# Altium integrated library Trimpot_1KR.IntLib: 1 symbol
Pins are listed as number, name and electrical type; pins without a type are passive.

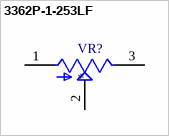
[diagram p0: symbol 3362P-1-253LF]

## 3362P-1-253LF
designator VR?
25 kOhms 0.5W, 1/2W PC Pins Through Hole Trimmer Potentiometer Cermet 1.0 Turn Top Adjustment; MF: Bourns; MP: 3362P-1-253LF; SnapEDA_Link: https://www.snapeda.com/parts/3362P-1-253LF/Bourns/view-part/?ref=snap; Price: None; Check_prices: https://www.snapeda.com/parts/3362P-1-253LF/Bourns/view-part/?ref=eda; Purchase-URL: https://pricing.snapeda.com/search/part/3362P-1-253LF/?ref=eda; Value: *; Availability: In Stock; Package: 3362P-1 Bourns Inc.
footprint TRIM_3362P-1-253LF
pins: 1 CCW, 2 WIPER, 3 CW